# EAGLE library part OPAMP_LMV358_INVOKE (library 1_ZeroUI)
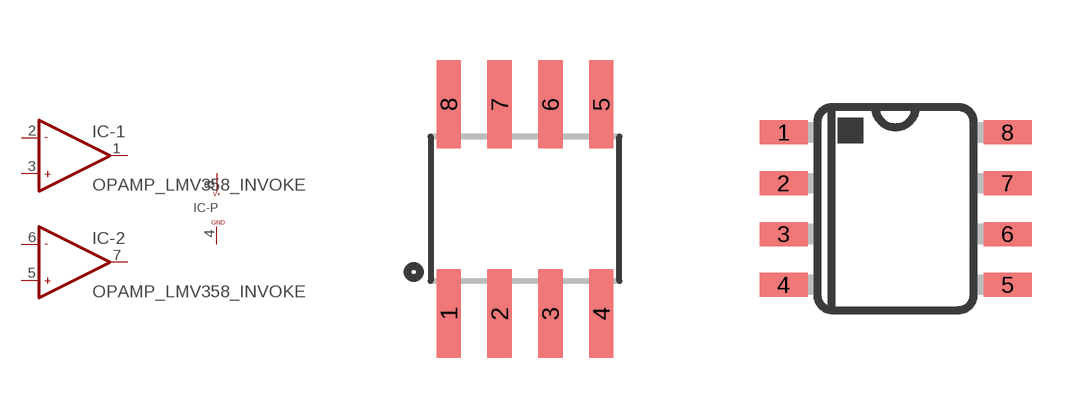
[diagram p15: symbol with the pads of SO08; footprints SO08, SO08-TIGHT]

Designator prefix IC; gates -1=OPAMP_2_1 -2=OPAMP_2_1 -P=SUPPLY_INVOKE

## OPAMP_LMV358_INVOKESO08  [SO08]
1  -1:OUT  out
2  -1:IN-  in
3  -1:IN+  in
4  -P:GND
5  -2:IN+  in
6  -2:IN-  in
7  -2:OUT  out
8  -P:V+

## OPAMP_LMV358_INVOKESO-O8-TIGHT (VALUE: LM358)  [SO08-TIGHT]
Pads as for SO08

## OPAMP_LMV358_INVOKE (VALUE: LM358-DFN; VARIANT: DFN)  [DFN-8]
1  -1:OUT  out
2  -1:IN-  in
3  -1:IN+  in
4  -P:GND
5  -2:IN+  in
6  -2:IN-  in
7  -2:OUT  out
8  -P:V+
PAD  -P:GND

## Footprint SO08 (pad centres in mm)
Small Outline Package Fits JEDEC packages (narrow SOIC-8)
smd 0.61 x 2.21: 1 -1.905,-2.616; 2 -0.635,-2.616; 3 0.635,-2.616; 4 1.905,-2.616; 5 1.905,2.616; 6 0.635,2.616; 7 -0.635,2.616; 8 -1.905,2.616

## Footprint SO08-TIGHT (pad centres in mm)
smd 1.2 x 0.6: 1 -2.8,1.905; 2 -2.8,0.635; 3 -2.8,-0.635; 4 -2.8,-1.905; 5 2.8,-1.905; 6 2.8,-0.635; 7 2.8,0.635; 8 2.8,1.905

## Footprint DFN-8 (pad centres in mm)
Footprint based on information in: http://www.st.com/content/ccc/resource/technical/document/datasheet/61/46/87/01/98/ed/44/c5/CD00000464.pdf/files/CD00000464.pdf/jcr:content/translations/en.CD00000464.pdf Now follows http://pdfserv.maximintegrated.com/land_patterns/90-0065.PDF Pasted was reduced by 40% width on the center ground pad, and some amount on the other 8. Stop mask extends 135 µm wider than the pad to hit dead center of what IPC-7351 recommends.
smd 0.3 x 0.75: 1 -0.75,-1.025; 2 -0.25,-1.025; 3 0.25,-1.025; 4 0.75,-1.025; 5 0.75,1.025; 6 0.25,1.025; 7 -0.25,1.025; 8 -0.75,1.025
smd 1.6 x 0.45: PAD 0,0